# Altium footprint library MDA_footprints.PcbLib: 5 footprints
Each footprint in its own frame and in the unit in brackets; x right, y up, seen from the top. Pads: shape width x height; smd on the part's side, far side on the other; paste and mask are expansions set on the pad; w line width, h text height; cw(c..) or ccw(c..) is an arc to the next point about the centre after c.
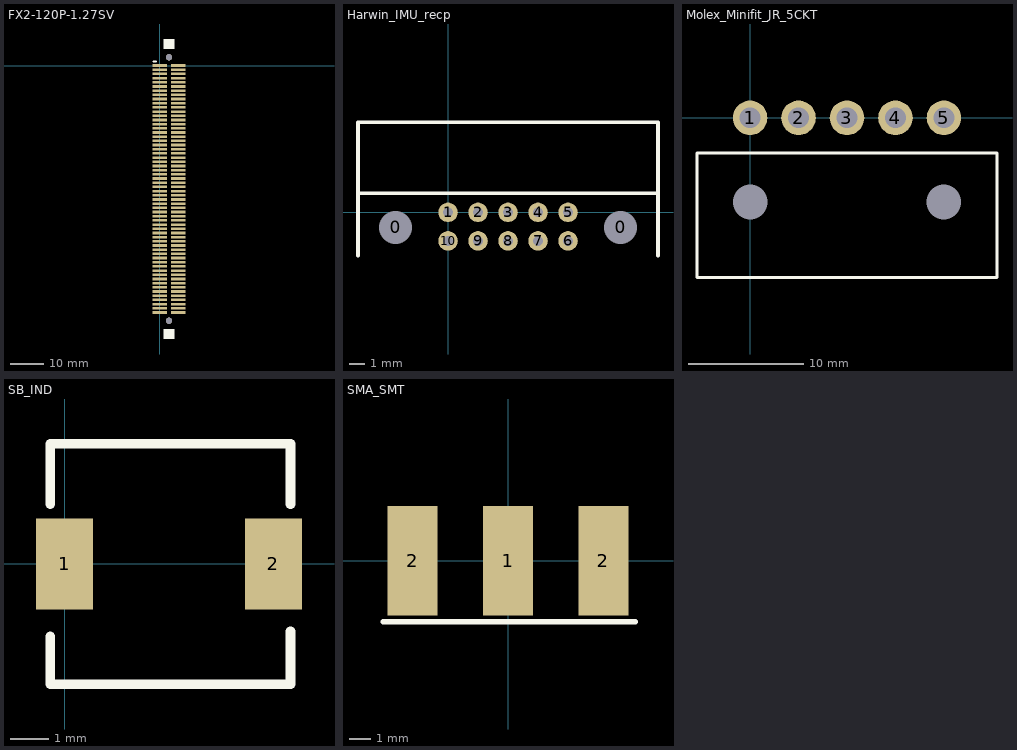
[diagram p0: the footprints below, top view; thin cyan lines are the x and y axes]

## FX2-120P-1.27SV [mm] "Main Stack Connector"
pads (120):
  rect 4.45x0.8 smd: 1(0,0) 2(0,-1.27) 3(0,-2.54) 4(0,-3.81) 5(0,-5.08) 6(0,-6.35) 7(0,-7.62) 8(0,-8.89) 9(0,-10.16) 10(0,-11.43) 11(0,-12.7) 12(0,-13.97) 13(0,-15.24) 14(0,-16.51) 15(0,-17.78) 16(0,-19.05) 17(0,-20.32) 18(0,-21.59) 19(0,-22.86) 20(0,-24.13) 21(0,-25.4) 22(0,-26.67) 23(0,-27.94) 24(0,-29.21) 25(0,-30.48) 26(0,-31.75) 27(0,-33.02) 28(0,-34.29) 29(0,-35.56) 30(0,-36.83) 31(0,-38.1) 32(0,-39.37) 33(0,-40.64) 34(0,-41.91) 35(0,-43.18) 36(0,-44.45) 37(0,-45.72) 38(0,-46.99) 39(0,-48.26) 40(0,-49.53) 41(0,-50.8) 42(0,-52.07) 43(0,-53.34) 44(0,-54.61) 45(0,-55.88) 46(0,-57.15) 47(0,-58.42) 48(0,-59.69) 49(0,-60.96) 50(0,-62.23) 51(0,-63.5) 52(0,-64.77) 53(0,-66.04) 54(0,-67.31) 55(0,-68.58) 56(0,-69.85) 57(0,-71.12) 58(0,-72.39) 59(0,-73.66) 60(0,-74.93) 61(5.55,-74.93) 62(5.55,-73.66) 63(5.55,-72.39) 64(5.55,-71.12) 65(5.55,-69.85) 66(5.55,-68.58) 67(5.55,-67.31) 68(5.55,-66.04) 69(5.55,-64.77) 70(5.55,-63.5) 71(5.55,-62.23) 72(5.55,-60.96) 73(5.55,-59.69) 74(5.55,-58.42) 75(5.55,-57.15) 76(5.55,-55.88) 77(5.55,-54.61) 78(5.55,-53.34) 79(5.55,-52.07) 80(5.55,-50.8) 81(5.55,-49.53) 82(5.55,-48.26) 83(5.55,-46.99) 84(5.55,-45.72) 85(5.55,-44.45) 86(5.55,-43.18) 87(5.55,-41.91) 88(5.55,-40.64) 89(5.55,-39.37) 90(5.55,-38.1) 91(5.55,-36.83) 92(5.55,-35.56) 93(5.55,-34.29) 94(5.55,-33.02) 95(5.55,-31.75) 96(5.55,-30.48) 97(5.55,-29.21) 98(5.55,-27.94) 99(5.55,-26.67) 100(5.55,-25.4) 101(5.55,-24.13) 102(5.55,-22.86) 103(5.55,-21.59) 104(5.55,-20.32) 105(5.55,-19.05) 106(5.55,-17.78) 107(5.55,-16.51) 108(5.55,-15.24) 109(5.55,-13.97) 110(5.55,-12.7) 111(5.55,-11.43) 112(5.55,-10.16) 113(5.55,-8.89) 114(5.55,-7.62) 115(5.55,-6.35) 116(5.55,-5.08) 117(5.55,-3.81) 118(5.55,-2.54) 119(5.55,-1.27) 120(5.55,0)
via 2.794,2.54 diameter 1.9 hole 1.9
via 2.794,-77.47 diameter 1.9 hole 1.9
Top Overlay:
  rectangle: 1.144,4.953 4.444,8.053
  rectangle: 1.144,-82.983 4.444,-79.883
  lines w0.635: -1.905,1.27 -1.143,1.27

## Harwin_IMU_recp [mm]
pads (12):
  round 1.524 hole 2.2 unplated: 0(-3.5,-1) 0(11.5,-1)
  round 1.3 hole 0.65: 1(0,0) 2(2,0) 3(4,0) 4(6,0) 5(8,0) 6(8,-1.905) 7(6,-1.905) 8(4,-1.905) 9(2,-1.905) 10(0,-1.905)
Top Overlay:
  lines w0.254: -6,-2.89 -6,6 14,6 14,-2.891 ; -6,1.27 14,1.27

## Molex_Minifit_JR_5CKT [mm]
pads (7):
  round 0 hole 3 unplated paste+0: 0(0,-7.3) 0(16.8,-7.3)
  round 3 hole 1.8 unplated: 1(0,0) 2(4.2,0) 3(8.4,0) 4(12.6,0) 5(16.8,0)
Top Overlay:
  lines w0.254: -4.6,-13.843 -4.6,-3.048 21.4,-3.048 21.4,-13.843 -4.6,-13.843

## SB_IND [mm] "Sonar Board Filter Inductor"
pads (2):
  rect 1.5x2.4 smd: 1(0,0) 2(5.5,0)
Top Overlay:
  lines w0.254: -0.381,-1.905 -0.381,-3.175 5.949,-3.175 5.949,-1.778 ; -0.381,1.572 -0.381,3.155 ; -0.381,3.167 5.949,3.167 ; 5.949,1.572 5.949,3.155

## SMA_SMT [mm]
pads (3):
  rect 2.29x5 smd: 1(0,0)
  rect 2.29x5 all layers, no hole: 2(-4.375,0) 2(4.375,0)
Top Overlay:
  lines w0.254: -5.715,-2.794 5.842,-2.794